# EAGLE library part BTN-KEYPAD (library Mechanical)
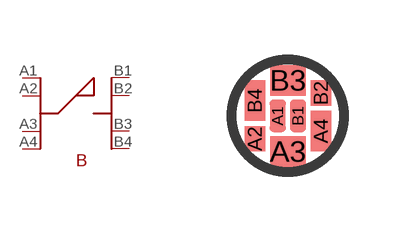
[diagram p66: symbol with the pads of SW-KEYPAD; footprint SW-KEYPAD]

Designator prefix B

## BTN-KEYPAD  [SW-KEYPAD]
A1  P$1
A2  P$2
A3  P$3
A4  P$4
B1  P$5
B2  P$6
B3  P$7
B4  P$8

## Footprint SW-KEYPAD (pad centres in mm)
smd 0.406 x 0.813: A1 -0.254,0; B1 0.254,0
smd 0.508 x 0.635: A2 -0.826,-0.572; B2 0.826,0.572
smd 0.889 x 0.762: A3 0,-0.889; B3 0,0.889
smd 0.508 x 1.016: A4 0.826,-0.381; B4 -0.826,0.381